# Altium schematic symbol library PDH_SchLib.SchLib: 8 symbols
Pins are listed as number, name and electrical type; pins without a type are passive.

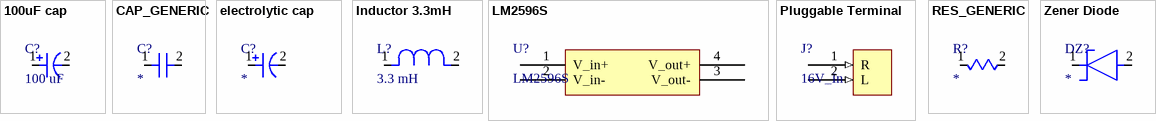
[diagram p0: symbols 100uF cap to Zener Diode]

## 100uF cap
designator C?, comment 100 uF
footprint 100uF Cap
pins: 1, 2

## CAP_GENERIC
designator C?
footprint Generic small capacitor
pins: 1, 2

## electrolytic cap
designator C?
footprint electrolytic cap
pins: 1, 2

## Inductor 3.3mH
designator L?, comment 3.3 mH
footprint Inductor 3.3 mH
pins: 1, 2

## LM2596S
designator U?
footprint LM2596S
pins: 1 V_in+ (power), 2 V_in- (power), 3 V_out- (power), 4 V_out+ (power)

## Pluggable Terminal
designator J?, comment 16V_In
pins: 1 R (in), 2 L (in)

## RES_GENERIC
designator R?
footprint Axial 0.5
pins: 1, 2

## Zener Diode
designator DZ?
footprint Zener Diode
pins: 1, 2